# EAGLE library part DP4T_SLIDE_SWITCH_18MM (library custom)
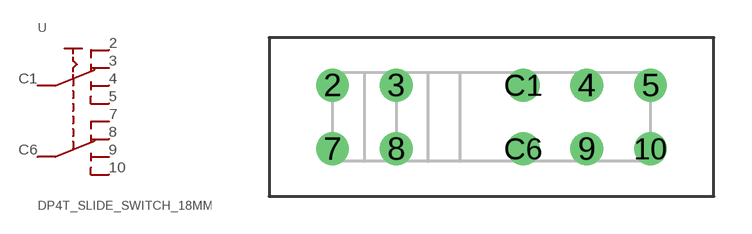
[diagram p16: symbol with the pads of DP4T_SLIDE_SWITCH_18MM; footprint DP4T_SLIDE_SWITCH_18MM]

Designator prefix -

## DP4T_SLIDE_SWITCH_18MM  [DP4T_SLIDE_SWITCH_18MM]
2  2
3  3
4  4
5  5
7  7
8  8
9  9
10  10
C1  C1
C6  C6

## Footprint DP4T_SLIDE_SWITCH_18MM (pad centres in mm)
drill 0.8: 2 -6.35,1.27; 3 -3.81,1.27; 4 3.81,1.27; 5 6.35,1.27; 7 -6.35,-1.27; 8 -3.81,-1.27; 9 3.81,-1.27; 10 6.35,-1.27; C1 1.27,1.27; C6 1.27,-1.27